# EAGLE library part SWITCH_3_2 (library my_devices)
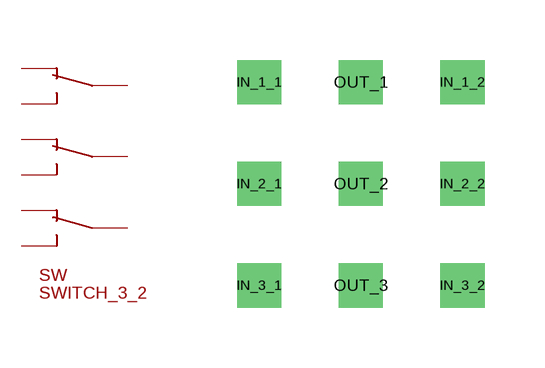
[diagram p22: symbol with the pads of SWITCH_3_2; footprint SWITCH_3_2]

Designator prefix SW

## SWITCH_3_2  [SWITCH_3_2]
IN_1_1  IN_1_1
IN_1_2  IN_1_2
IN_2_1  IN_2_1
IN_2_2  IN_2_2
IN_3_1  IN_3_1
IN_3_2  IN_3_2
OUT_1  OUT_1
OUT_2  OUT_2
OUT_3  OUT_3

## Footprint SWITCH_3_2 (pad centres in mm)
drill 0.6 square: IN_1_1 -2.54,2.54; IN_1_2 2.54,2.54; IN_2_1 -2.54,0; IN_2_2 2.54,0; IN_3_1 -2.54,-2.54; IN_3_2 2.54,-2.54; OUT_1 0,2.54; OUT_2 0,0; OUT_3 0,-2.54